# Altium schematic symbol library FPF219x.Schlib: 1 symbol
Pins are listed as number, name and electrical type; pins without a type are passive.

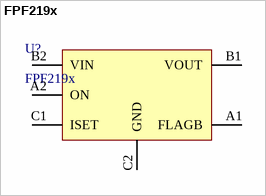
[diagram p0: symbol FPF219x]

## FPF219x
designator U?
pins: A1 FLAGB, A2 ON, B1 VOUT, B2 VIN, C1 ISET, C2 GND